# Altium schematic symbol library Wago.SchLib: 3 symbols
Pins are listed as number, name and electrical type; pins without a type are passive.

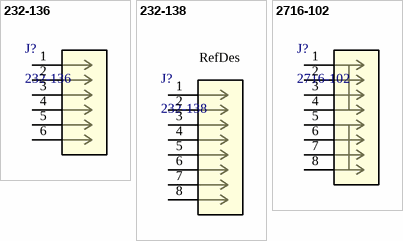
[diagram p0: symbols 232-136 to 2716-102]

## 232-136
designator J?
No Description Available; Manufacturer: Wago; Copyright: Copyright (C) 2022 Ultra Librarian. All rights reserved.; Ordering Number: 232-136; RefDes: RefDes; Type: DEV
footprint CONN_232-136_WAG
pins: 1, 2, 3, 4, 5, 6

## 232-138
designator J?
No Description Available; Manufacturer: Wago; Copyright: Copyright (C) 2022 Ultra Librarian. All rights reserved.; Ordering Number: 232-138; Type: DEV; RefDes: RefDes
footprint CONN_232-138_WAG
pins: 1, 2, 3, 4, 5, 6, 7, 8

## 2716-102
designator J?
No Description Available; Manufacturer: Wago; Copyright: Copyright (C) 2022 Ultra Librarian. All rights reserved.; Ordering Number: 2716-102; RefDes: RefDes; Type: DEV
footprint CONN08_2716-102_WAG
pins: 1, 2, 3, 4, 5, 6, 7, 8